# Altium footprint library 28pins_pcb_library.PcbLib: 27 footprints (part 2 of 2)
Each footprint in its own frame and in the unit in brackets; x right, y up, seen from the top. Pads: shape width x height; smd on the part's side, far side on the other; paste and mask are expansions set on the pad; w line width, h text height; cw(c..) or ccw(c..) is an arc to the next point about the centre after c.
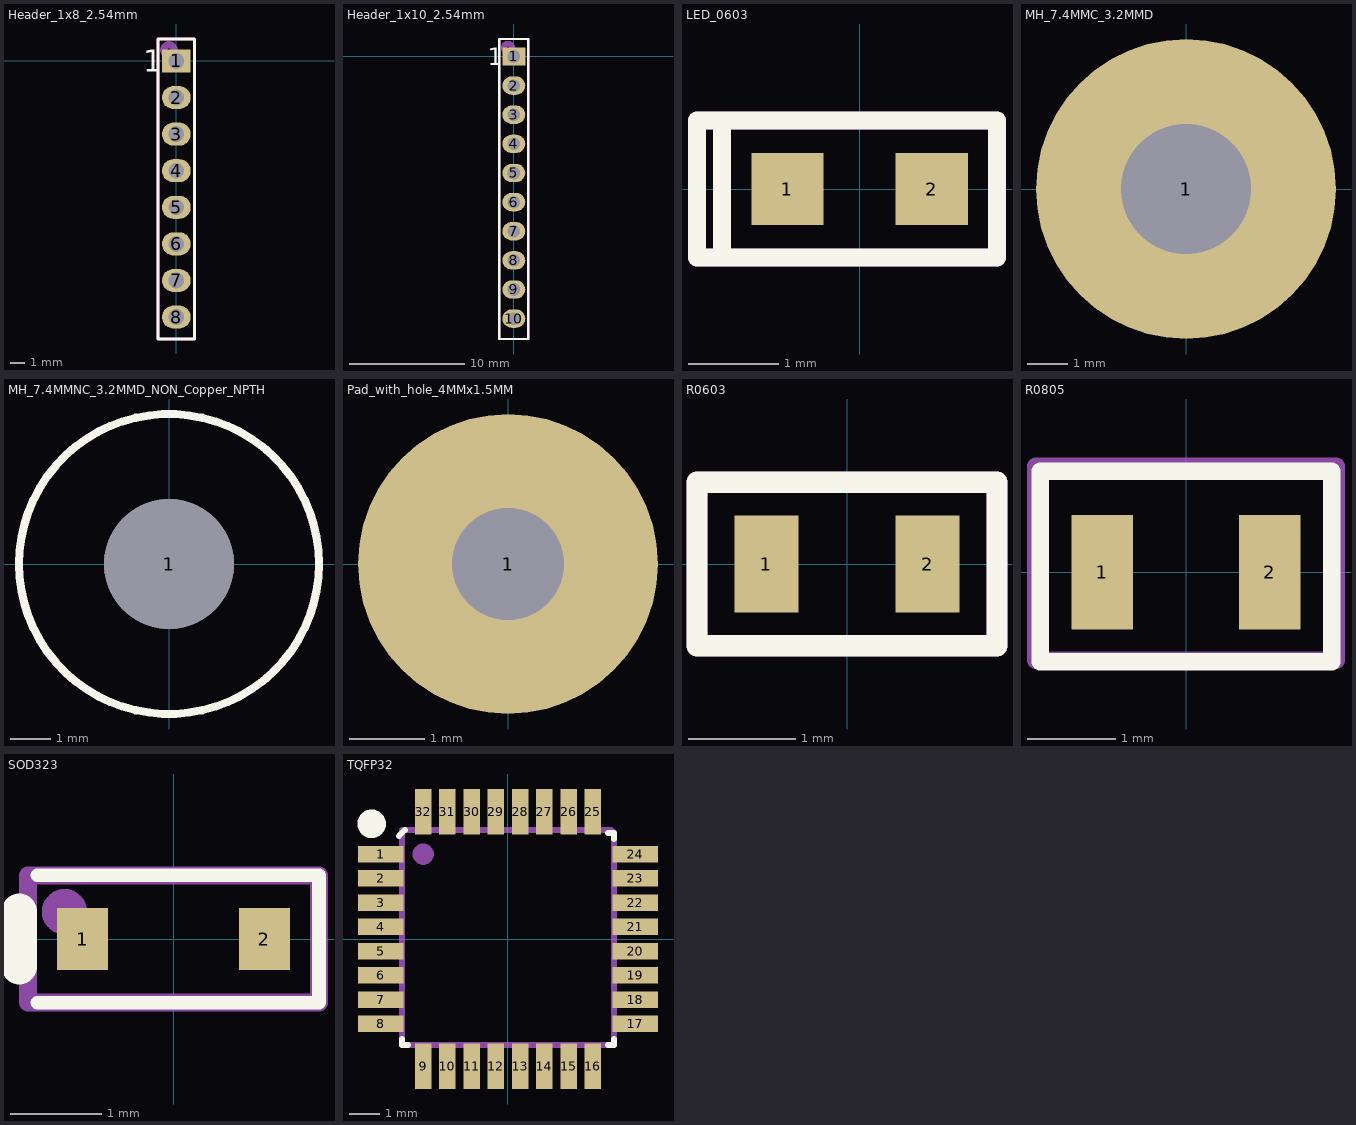
[diagram p1: the footprints below, top view; thin cyan lines are the x and y axes]

## Header_1x8_2.54mm [mm]
pads (8):
  rect 2x1.6 hole 1.1: 1(0,0)
  oval 2x1.6 hole 1.1: 2(0,-2.54) 3(0,-5.08) 4(0,-7.62) 5(0,-10.16) 6(0,-12.7) 7(0,-15.24) 8(0,-17.78)
Top Overlay:
  lines w0.2: -1.27,-19.304 -0.254,-19.304 1.27,-19.304 1.27,1.524 -1.27,1.524 -1.27,-19.304
  text "1" at -2.286,-0.762 h1.52
Mechanical 29:
  circle w0.5: c-0.508,0.762 r0.359
  lines w0.2: -1.27,-19.304 1.27,-19.304 1.27,1.524 -1.27,1.524 -1.27,-19.304
  text ".designator" at 0.762,-12.7 h1.52
3D body "m20-7820842.stp": height 8.31, standoff -3.19, extent -1.23,-19.196 1.27,1.524

## Header_1x10_2.54mm [mm]
pads (10):
  rect 2x1.6 hole 1.1: 1(0,0)
  oval 2x1.6 hole 1.1: 2(0,-2.54) 3(0,-5.08) 4(0,-7.62) 5(0,-10.16) 6(0,-12.7) 7(0,-15.24) 8(0,-17.78) 9(0,-20.32) 10(0,-22.86)
Top Overlay:
  lines w0.2: -1.27,-24.638 -1.27,1.524 1.27,1.524 1.27,-24.638 -0.254,-24.638 -1.27,-24.638
  text "1" at -2.286,-0.762 h1.52
Mechanical 29:
  circle w0.5: c-0.508,0.762 r0.359
  lines w0.2: -1.27,-24.638 -1.27,1.524 1.27,1.524 1.27,-24.638 -1.27,-24.638
  text ".designator" at 0.508,-13.97 h1.52
3D body "m20-7821046.stp": height 8.31, standoff -3.19, extent -1.25,-24.33 1.25,1.47

## LED_0603 [mm]
pads (2):
  rect 0.8x0.8 smd: 1(-0.8,0) 2(0.8,0)
Top Overlay:
  lines w0.2: -1.524,-0.762 1.524,-0.762 1.524,0.762 -1.524,0.762 ; -1.524,-0.762 -1.524,0.762 ; -1.524,-0.762 -1.803,-0.762 -1.803,0.762 -1.524,0.762
Mechanical 29:
  lines w0.2: -1.524,-0.737 -1.524,0.762 ; -1.803,-0.762 -1.803,0.762 1.524,0.762 1.524,-0.762 -1.803,-0.762
  text ".designator" at -0.889,-0.305 h0.76
3D body "User Library-LED SMD0603.step": height 0.66, standoff -0.01, extent -0.85,-0.356 0.8,0.369
3D body: height 0.69, standoff 0.33, extent -0.146,-0.112 0.146,0.112

## MH_7.4MMC_3.2MMD [mm]
pads (1):
  round 7.4 hole 3.2: 1(0,0)

## MH_7.4MMNC_3.2MMD_NON_Copper_NPTH [mm]
pads (1):
  round 3.2 hole 3.2 unplated: 1(0,0)
Top Overlay:
  circle w0.2: c0,0 r3.7

## Pad_with_hole_4MMx1.5MM [mm]
pads (1):
  round 4 hole 1.5: 1(0,0)

## PCBComponent_1 [mm]

## R0603 [mm]
pads (2):
  rect 0.6x0.9 smd: 1(-0.75,0) 2(0.75,0)
Top Overlay:
  lines w0.2: -1.397,-0.762 1.397,-0.762 1.397,0.762 -1.397,0.762 -1.397,-0.762
Mechanical 29:
  lines w0.2: -1.397,-0.762 -1.397,0.762 1.397,0.762 1.397,-0.762 -1.397,-0.762
  text ".designator" at -1.143,-0.254 h0.76
3D body "CG0603MLC-05E--3DModel-STEP-1.STEP": height 0.55, standoff 0, extent -0.8,-0.381 0.8,0.419

## R0805 [mm]
pads (2):
  rect 0.7x1.3 smd: 1(-0.95,0) 2(0.95,0)
Top Overlay:
  lines w0.2: -1.651,-1.016 1.651,-1.016 1.651,1.143 -1.651,1.143 -1.651,-1.016
Mechanical 29:
  lines w0.2: -1.7,-1 -1.7,1.2 1.7,1.2 1.7,-1 -1.7,-1
  text ".Designator" at -0.946,-0.033 h1
3D body "RESC2012X60N EIA 0805.step": height 0.61, standoff 0.01, extent -1,-0.6 1,0.6

## SOD323 [mil]
pads (2):
  rect 22x27 smd: 1(-39.37,0) 2(39.37,0)
Top Overlay:
  lines w5.91: -59.06,-27.56 62.99,-27.56 62.99,27.56 -59.06,27.56
  lines w15.75: -66.93,-11.81 -66.93,11.81
Mechanical 29:
  circle w11.81: c-47.24,11.81 r3.94
  lines w7.87: -62.99,-27.56 -55.12,-27.56 62.99,-27.56 62.99,27.56 -55.12,27.56 -62.99,27.56 -62.99,-27.56
  text ".Designator" at -29.37,-13.12 h39.37
3D body "User Library-SOD323.step": height 35.43, standoff -3.54, extent -49.21,-23.62 49.21,25.59

## TQFP32 [mm]
pads (32):
  rect 1.5x0.55 smd mask+0.06: 1(-4.2,2.8) 2(-4.2,2) 3(-4.2,1.2) 4(-4.2,0.4) 5(-4.2,-0.4) 6(-4.2,-1.2) 7(-4.2,-2) 8(-4.2,-2.8) 17(4.2,-2.8) 18(4.2,-2) 19(4.2,-1.2) 20(4.2,-0.4) 21(4.2,0.4) 22(4.2,1.2) 23(4.2,2) 24(4.2,2.8)
  rect 0.55x1.5 smd mask+0.06: 9(-2.8,-4.2) 10(-2,-4.2) 11(-1.2,-4.2) 12(-0.4,-4.2) 13(0.4,-4.2) 14(1.2,-4.2) 15(2,-4.2) 16(2.8,-4.2) 25(2.8,4.2) 26(2,4.2) 27(1.2,4.2) 28(0.4,4.2) 29(-0.4,4.2) 30(-1.2,4.2) 31(-2,4.2) 32(-2.8,4.2)
Top Overlay:
  circle w0.5: c-4.5,3.8 r0.224
  lines w0.2: -3.6,3.4 -3.4,3.6 ; -3.5,-3.3 -3.5,-3.5 -3.3,-3.5 ; 3.3,-3.5 3.5,-3.5 3.5,-3.3 ; 3.3,3.5 3.5,3.5 3.5,3.3
Mechanical 29:
  circle w0.5: c-2.8,2.8 r0.1
  lines w0.2: -3.5,-3.5 3.5,-3.5 3.5,3.5 3.4,3.6 -3.5,3.6 -3.5,-3.5
  text ".designator" at -0.146,-0.138 h1.52
3D body "User Library-tqfp32.step": height 1.2, standoff 0, extent -4.599,-4.599 4.6,4.599